# Altium schematic symbol library SX1301DVK_e286v01a.SchLib: 61 symbols
Pins are listed as number, name and electrical type; pins without a type are passive.

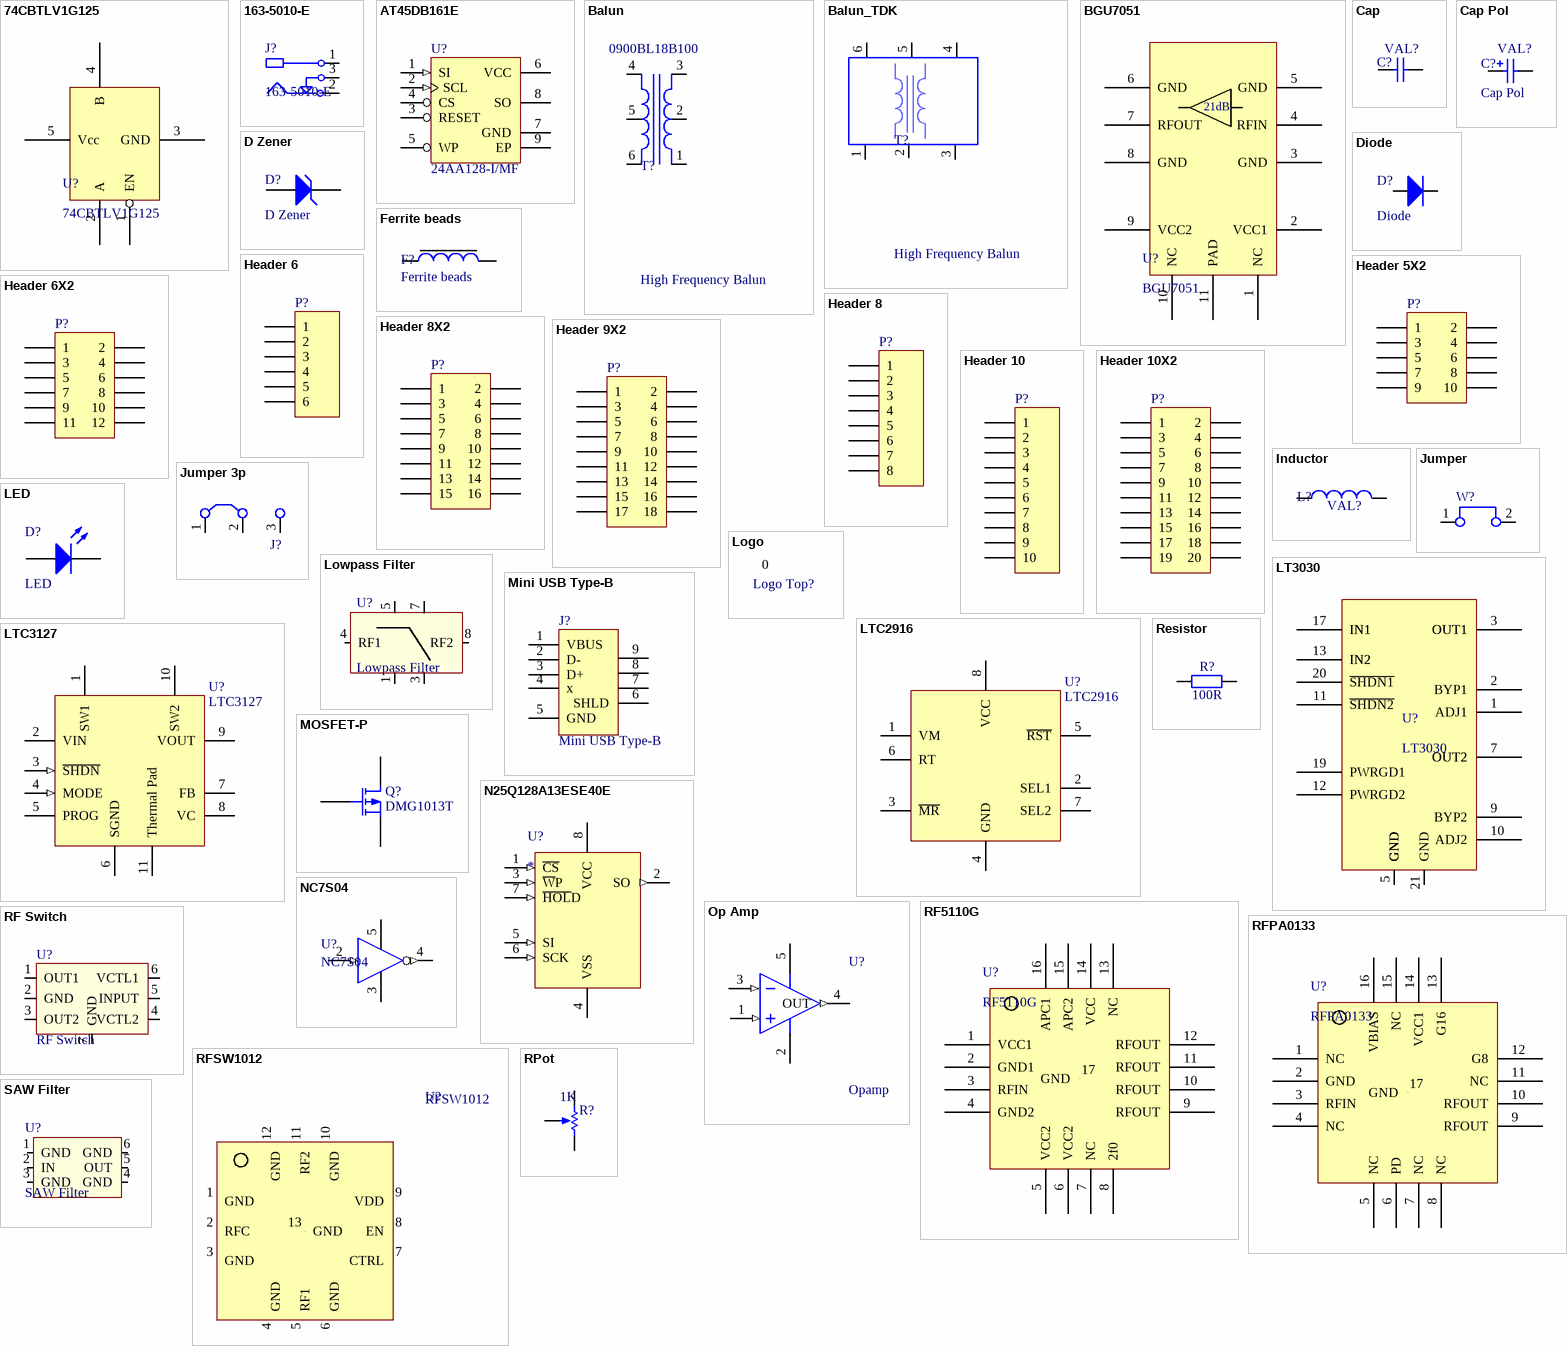
[diagram p0: symbols 74CBTLV1G125 to SAW Filter]

## 74CBTLV1G125
designator U?
74CBTLV1G125 - Low-Voltage Single Fet Bus Switch
footprint SOT353-5 (SOT353, 5-Leads, Body 2x1.3mm, Pitch 0.65mm, Lead Span 2.1mm, IPC Medium Density)
pins: 1 EN, 2 A, 3 GND, 4 B, 5 Vcc

## 163-5010-E
designator J?
163-5010-E - DC connector for external power supply; LatestRevisionDate: 05-oct-2007  -  Semtech
footprint 163-5010-E
pins: 1 "pin terminal - internal", 2 "sleeve pin - external", 3 "break pin"

## AT45DB161E
designator U?, comment 24AA128-I/MF
128kbit, 400kHz, 1.7V, 8-Pin DFN, Industrial Temperature; Published: 2-Dec-2009; DatasheetVersion: revF, Oct-2008; PackageVersion: revBB, Aug-2009; Publisher: Altium Limited; Supplier 1: Digi-Key; Supplier Part Number 1: 24AA128-I/MF; ComponentLink2Description: Packaging Specification; ComponentLink3Description: Microchip.com Home; ComponentLink3URL: http://www.microchip.com/
footprint DFN8_ 5x6mm (8 Leads, Body 5x6mm, pitch 1.27mm, DFN8)
pins: 1 SI (in), 2 SCL (in), 3 RESET, 4 CS (power), 5 WP, 6 VCC (power), 7 GND, 8 SO (power), 9 EP

## Balun
designator T?, comment High Frequency Balun  Ref: 0900BL18B100
High Frequency Balun - Johanson; Published: 31-oct-2013; LatestRevisionDate: 31-oct-2013; LatestRevisionNote: Re-released for DXP Platform.; Publisher: Altium Limited; PackageDescription: Transformer; 6 Leads
footprint 0900BL18B100 (0900BL18B100; Low Pass Filter; Johanson; Body 2.00 x 1.25 mm (LxW max))
pins: 1 Sec-, 2 SecCT, 3 Sec+, 4 Pri+, 5 PriCT, 6 Pri-

## Balun_TDK
designator T?, comment High Frequency Balun
High Frequency Balun - Johanson; Published: 31-oct-2013; LatestRevisionDate: 31-oct-2013; LatestRevisionNote: Re-released for DXP Platform.; Publisher: Altium Limited; PackageDescription: Transformer; 6 Leads
footprint hhm1591d1_Balun (hhm1591d1; balun; TDK; Body 2.00 x 1.25 mm (LxW max))
pins: 1 Sec-, 2 SecCT, 3 Sec+, 4 Pri+, 5 PriCT, 6 Pri-

## BGU7051
designator U?
BGU7051 - Low Noise High Linearity Amplifier
footprint HWSON10 3.0x3.0mm (10 Leads, Body 3.0x3.0mm, Pitch 0.5mm, HWSON10)
pins: 1 NC, 2 VCC1, 3 GND, 4 RFIN, 5 GND, 6 GND, 7 RFOUT, 8 GND, 9 VCC2, 10 NC, 11 PAD
text: 21dB

## Cap
designator C?  value VAL?  (hidden comment: Cap)
Capacitor SMD; Published: 8-Jun-2000; LatestRevisionDate: 05-oct-2007  -  Semtech; LatestRevisionNote: Re-released for DXP Platform.; Publisher: Altium Limited
simulation model CAP (Semiconductor Capacitor)
signal-integrity model Cap Semi
footprint rlc_402_smd (Chip SMD component 402; Body 1.0 x 0.5 mm (LxW typ))
footprint rlc_603_smd (Chip SMD component 603; Body 1.6 x 0.8mm (LxW typ))
footprint rlc_805_smd (Chip SMD component 805; Body 2.0 x 1.25 mm (LxW typ))
footprint rlc_1206_smd (Chip SMD component 1206; Body 3.2 x 1.6 mm (LxW typ))
footprint rlc_201_smd (Chip SMD component 201; Body 0.6 x 0.3 mm (LxW typ))
pins: 1, 2

## Cap Pol
designator C?  value VAL?
Polarized Capacitor (Surface Mount); Published: 8-Jun-2000; LatestRevisionDate: 05-oct-2007  -  Semtech; LatestRevisionNote: Re-released for DXP Platform.; Publisher: Altium Limited
simulation model CAP (Capacitor)
signal-integrity model Cap Pol
footprint rlc_1210_smd (Chip SMD component 1210; Body 3.2 x 2.5 mm (LxW typ))
footprint rlc_1812_smd (Chip SMD component 1812; Body 4.5 x 3.2 mm (LxW typ))
footprint rlc_2225_smd (Chip SMD component 2225; Body 5.6 x 6.4 mm (LxW typ))
footprint CD3216-1206 (Chip Diode; Body 3.2 x 1.6 mm (LxW typ))
footprint CD2012-0805 (Chip Diode; Body 2.0 x 1.3 mm (LxW typ))
footprint rlc_1206_smd capa pol (Chip SMD component 1206; Body 3.2 x 1.6 mm (LxW typ))
pins: 1, 2
1 alternate drawing of the same symbol

## D Zener
designator D?
Zener Diode; Published: 8-Jun-2000; LatestRevisionDate: 05-oct-2007  -  Semtech; LatestRevisionNote: Re-released for DXP Platform.; Publisher: Altium Limited
footprint CD1608-0603 (Chip Diode; Body 1.6 x 0.8 mm (LxW typ))
footprint CD2012-0805 (Chip Diode; Body 2.0 x 1.3 mm (LxW typ))
pins: 1 A, 2 K

## Diode
designator D?
Protection Diode; Published: 8-Jun-2000; LatestRevisionDate: 17-Jul-2002; LatestRevisionNote: Re-released for DXP Platform.; PackageDocument: Sep-1996; PackageReference: SMC; Publisher: Altium Limited; Code_JEDEC: 05-oct-2007  -  Semtech
footprint CD1005-0402 (Chip Diode; Body 1.0 x 0.5 mm (LxW typ))
footprint CD1608-0603 (Chip Diode; Body 1.6 x 0.8 mm (LxW typ))
footprint CD2012-0805 (Chip Diode; Body 2.0 x 1.3 mm (LxW typ))
footprint CD3216-1206 (Chip Diode; Body 3.2 x 1.6 mm (LxW typ))
footprint PowerDI 123 (Chip Diode; PowerDI 123)
footprint DO214-AA (Chip Diode; Body 4.3 x3.6mm (LxW typ))
footprint SOD123 (SOD123; Chip Diode; Body  2.7 x 1.6 mm (LxW typ))
pins: 1 A, 2 K

## Ferrite beads
designator F?
Value: VAL?
footprint rlc_1206_smd (Chip SMD component 1206; Body 3.2 x 1.6 mm (LxW typ))
footprint rlc_805_smd (Chip SMD component 805; Body 2.0 x 1.25 mm (LxW typ))
footprint rlc_603_smd (Chip SMD component 603; Body 1.6 x 0.8mm (LxW typ))
footprint rlc_402_smd (Chip SMD component 402; Body 1.0 x 0.5 mm (LxW typ))
pins: 1, 2

## Header 5X2
designator P?
Header, 5-Pin, Dual row; LatestRevisionDate: 17-Jul-2002; LatestRevisionNote: Re-released for DXP Platform.; Publisher: Altium Limited
footprint HDR2X5 (Connector; Header; 5x2 Position)
signal-integrity model Connector
pins: 1, 2, 3, 4, 5, 6, 7, 8, 9, 10

## Header 6
designator P?
Header, 6-Pin; LatestRevisionDate: 17-Jul-2002; LatestRevisionNote: Re-released for DXP Platform.; Publisher: Altium Limited
footprint HDR1X6 (Connector; Header; 6 Position)
signal-integrity model Connector
pins: 1, 2, 3, 4, 5, 6

## Header 6X2
designator P?
Header, 6-Pin, Dual row; LatestRevisionDate: 17-Jul-2002; LatestRevisionNote: Re-released for DXP Platform.; Publisher: Altium Limited
footprint HDR2X6 (Connector; Header; 6x2 Position)
signal-integrity model Connector
pins: 1, 2, 3, 4, 5, 6, 7, 8, 9, 10, 11, 12

## Header 8
designator P?
Header, 8-Pin; LatestRevisionDate: 17-Jul-2002; LatestRevisionNote: Re-released for DXP Platform.; Publisher: Altium Limited
footprint HDR1X8 (Connector; Header; 8 Position)
signal-integrity model Connector
pins: 1, 2, 3, 4, 5, 6, 7, 8

## Header 8X2
designator P?
Header, 8-Pin, Dual row; LatestRevisionDate: 17-Jul-2002; LatestRevisionNote: Re-released for DXP Platform.; Publisher: Altium Limited
footprint HDR2X8 (Connector; Header; 8x2 Position)
signal-integrity model Connector
pins: 1, 2, 3, 4, 5, 6, 7, 8, 9, 10, 11, 12, 13, 14, 15, 16

## Header 9X2
designator P?
Header, 9-Pin, Dual row; LatestRevisionDate: 17-Jul-2002; LatestRevisionNote: Re-released for DXP Platform.; Publisher: Altium Limited
footprint HDR2X9 (Connector; Header; 9x2 Position)
signal-integrity model Connector
pins: 1, 2, 3, 4, 5, 6, 7, 8, 9, 10, 11, 12, 13, 14, 15, 16, 17, 18

## Header 10
designator P?
Header, 10-Pin; LatestRevisionDate: 17-Jul-2002; LatestRevisionNote: Re-released for DXP Platform.; Publisher: Altium Limited
footprint HDR1X10 (Connector; Header; 10 Position)
signal-integrity model Connector
pins: 1, 2, 3, 4, 5, 6, 7, 8, 9, 10

## Header 10X2
designator P?
Header, 10-Pin, Dual row; LatestRevisionDate: 17-Jul-2002; LatestRevisionNote: Re-released for DXP Platform.; Publisher: Altium Limited
footprint HDR2X10 (Connector; Header; 10x2 Position)
signal-integrity model Connector
pins: 1, 2, 3, 4, 5, 6, 7, 8, 9, 10, 11, 12, 13, 14, 15, 16, 17, 18, 19, 20

## Inductor
designator L?  value VAL?  (hidden comment: Inductor)
Code_IEC: 1005; Published: 8-Jun-2000; LatestRevisionDate: 05-oct-2007  -  Semtech; LatestRevisionNote: Re-released for DXP Platform.; Publisher: Altium Limited; Code_JEITA: 0402
footprint rlc_402_smd (Chip SMD component 402; Body 1.0 x 0.5 mm (LxW typ))
footprint rlc_1812_smd (Chip SMD component 1812; Body 4.5 x 3.2 mm (LxW typ))
footprint WE-PD2 Wurth 5.2 x 5.8mm (Chip Diode; Body  5.2 x 5.8mm (LxW typ))
footprint XFL4020 Series (Chip SMD component ; Body 4.0 x 4.0 mm (LxW typ))
footprint L2813
footprint L4818
pins: 1, 2

## Jumper
designator W?  (value not drawn)
Jumper Wire; LatestRevisionDate: 05-oct-2007  -  Semtech
footprint bridge_254mm (Generic Bridge 2.54mm, 2 Leads 1mm;)
footprint bridge_508mm (Generic Bridge 5.08mm, 2 Leads 1mm;)
pins: 1, 2

## Jumper 3p
designator J?  (value not drawn)
Value: 1K; Published: 8-Jun-2000; LatestRevisionDate: 17-Jul-2002; LatestRevisionNote: Re-released for DXP Platform.; PackageReference: AXIAL-0.3; Publisher: Altium Limited
footprint bridge_254mm_3_position (Generic Bridge 2.54mm, 3 Leads; Hole Size 0.9mm;)
footprint bridge_254mm_3_position_1.1mm (Generic Bridge 2.54mm, 3 Leads; Hole Size 1.1mm;)
footprint bridge_254mm_3_position_no_overlay (Generic Bridge 2.54mm, 3 Leads; Hole Size 0.9mm;)
pins: 1, 2, 3

## LED
designator D?
LatestRevisionDate: 05-oct-2007  -  Semtech
footprint CD1005-0402 (Chip Diode; Body 1.0 x 0.5 mm (LxW typ))
footprint CD1608-0603 (Chip Diode; Body 1.6 x 0.8 mm (LxW typ))
footprint CD2012-0805 (Chip Diode; Body 2.0 x 1.3 mm (LxW typ))
footprint Reverse LED 3216 - 1206-hole round (Reverse Package Chip LED; Body 3.2 x 1.6 mm (LxW typ))
footprint Reverse LED 3216 - 1206 - hole slot (Reverse Package Chip LED; Body 3.2 x 1.6 mm (LxW typ))
footprint LGM676 LED (Chip Diode; Body 2.1 x 1.4 mm (LxW typ))
pins: 1 A, 2 K

## Logo
designator Logo Top?, comment Logo symbol  (value not drawn)
Schematic symbol for Logo
footprint logo_semtech_horiz_size1 (Logo semtech horizontal - size1 - S)
footprint logo_semtech_horiz_size2 (Logo semtech horizontal - size2 - M)
footprint logo_semtech_horiz_size3 (Logo semtech horizontal - size3 - L)
footprint logo_semtech_horiz_size4 (Logo semtech horizontal - size4 - XL)
footprint Logo DC Supply (Logo for DC Supply)
pins: 0 "Logo"

## Lowpass Filter
designator U?
RF Filter - Lowpass; LatestRevisionDate: 05-oct-2007  -  Semtech
footprint LP Filter Johanson (Low Pass Filter ; Body 2.00 x 1.25 mm (LxW max))
pins: 1 GND, 3 GND, 4 RF1, 5 GND, 7 GND, 8 RF2

## LT3030
designator U?
LT3030 Low Dropout, Low Noise,  Micropower Linear Regulator
footprint TSSOP20_EP (TSSOP20, 21-Leads, Eposed Pad; Body 6.5x4.4mm, Pitch 0.65mm, IPC High Density)
pins: 1 ADJ1, 2 BYP1, 3 OUT1, 4 OUT1, 5 GND, 6 GND, 7 OUT2, 8 OUT2, 9 BYP2, 10 ADJ2, 11 ~{SHDN2}, 12 PWRGD2, 13 IN2, 14 IN2, 15 GND, 16 GND, 17 IN1, 18 IN1, 19 PWRGD1, 20 ~{SHDN1}, 21 GND

## LTC2916
designator U?
LTC2916 - Voltage Supervisor with  27 Selectable Thresholds
footprint TSOT-23-8
pins: 1 VM, 2 SEL1, 3 ~{MR}, 4 GND, 5 ~{RST}, 6 RT, 7 SEL2, 8 VCC (oc)

## LTC3127
designator U?
LTC3127EDD#PBF - 1A Buck-Boost DC/DC  Converter with Programmable  Input Current Limit; Published: 30-May-2008; LatestRevisionDate: 4-Feb-2010; LatestRevisionNote: Thermal pad adjusted to match vendors recommendation, VIN type changed to power.; DatasheetVersion: Aug-2007; PackageVersion: Jul-2005; PackageReference: DD10; Publisher: Altium Limited; PackageDescription: 10-Pin Plastic DFN, 3 x 3 x 0.8 mm Body, 0.5 mm Pitch, No Pullback, Exposed Pad (DD10); Code_JEDEC: MO-229-WEED-2; ComponentLink1Description: Manufacturer Link; ComponentLink1URL: http://www.linear.com/; ComponentLink2Description: Datasheet; ComponentLink2URL: http://www.linear.com/pc/downloadDocument.do?navId=H0,C1,C1003,C1042,C1035,P7546,D5130; P/N:: LTC3127EDD#PBF
footprint DD10_N (SON, 10-Leads, Body 3x3 mm, Pitch 0.5mm, IPC Medium Density)
footprint DD10_L (SON, 10-Leads, Body 3x3 mm, Pitch 0.5mm, IPC High Density)
footprint DD10_M (SON, 10-Leads, Body 3x3 mm, Pitch 0.5mm, IPC Low Density)
footprint DD10_L (SON, 10-Leads, Body 3x3 mm, Pitch 0.5mm, IPC High Density)
pins: 1 SW1 (oc), 2 VIN (power), 3 ~{SHDN} (in), 4 MODE (in), 5 PROG, 6 SGND, 7 FB, 8 VC, 9 VOUT, 10 SW2 (oc), 11 Thermal Pad (power)

## Mini USB Type-B
designator J?
USB 2.0, Right Angle, SMT, Type B, Receptacle, 5 Position; ContactMaterial: Phosphor Bronze; ContactPlating: Gold (30) over Nickel; DrillSize: Corresponds to nominal value.; DatasheetDocument: 15-Nov-2002; PackageDocument: 15-Nov-2002; HousingMaterial: Thermoplastic; ComponentLink1Description: Manufacturer Link; ComponentLink1URL: http://www.tycoelectronics.com/; ComponentLink2Description: Packaging Specification; ComponentLink2URL: http://ecommas.tycoelectronics.com/commerce/DocumentDelivery/DDEController?Action=showdoc&DocId=Customer+Drawing%7F440478%7FB%7Fpdf%7FEnglish%7FC_440478_B.pdf
footprint H2959CT-ND (Connector; USB2.0, Type A, SM; 5 Position; Right Angle)
pins: 1 VBUS (power), 2 D-, 3 D+, 4 x, 5 GND (power), 6 SHLD, 7 SHLD, 8 SHLD, 9 SHLD
2 alternate drawings of the same symbol

## MOSFET-P
designator Q?, comment DMG1013T
P-Channel MOSFET; Published: 8-Jun-2000; LatestRevisionDate: 17-Jul-2002; LatestRevisionNote: Re-released for DXP Platform.; PackageVersion: 1995/1996; PackageReference: E3; Publisher: Altium Limited; PackageDescription: TO, Flat Index; 3 In-Line, Axial Leads; Body Dia. 4.6mm; Lead Dia. 0.5 mm (max)
footprint E3 (TO, Flat Index; 3 In-Line, Axial Leads; Body Dia. 4.6mm; Lead Dia. 0.5 mm (max))
simulation model PMOS (MOSFET-P)
pins: 1 D, 2 G, 3 S

## N25Q128A13ESE40E
designator U?
N25Q128A13ESE40E
footprint SOP2-8 (SOP2-8, SE Package 8-Leads, Body 5.3x5.3mm, Pitch 1.27mm, IPC High Density)
pins: 1 ~{CS} (in), 2 SO (out), 3 ~{W}P (in), 4 VSS (power), 5 SI (in), 6 SCK (in), 7 ~{HOL}D (in), 8 VCC (power)

## NC7S04
designator U?
NC7S04 - TinyLogic HS Single Inverter - Fairchild Semi
footprint SOT23-5 (SOT23, 5-Leads, Body 2.9x1.6mm, Pitch 0.95mm, Lead Span 2.8mm, IPC Medium Density)
pins: 2 A (in), 3 GND (power), 4 Y (out), 5 VCC (power)

## Op Amp
designator U?, comment Opamp
Operational Amplifier - MAX4464
footprint SOT23-5 (SOT23, 5-Leads, Body 2.9x1.6mm, Pitch 0.95mm, Lead Span 2.8mm, IPC Medium Density)
pins: 1 IN+ (in), 2 VSS (power), 3 IN- (in), 4 OUT (out), 5 VDD (power)

## Resistor
designator R?  value 100R  (hidden comment: Resistor)
Resistor SMD - IEC symbol version; LatestRevisionDate: 27-Jul-20  -  Semtech
footprint rlc_201_smd (Chip SMD component 201; Body 0.6 x 0.3 mm (LxW typ))
footprint rlc_402_smd (Chip SMD component 402; Body 1.0 x 0.5 mm (LxW typ))
footprint rlc_603_smd (Chip SMD component 603; Body 1.6 x 0.8mm (LxW typ))
footprint rlc_805_smd (Chip SMD component 805; Body 2.0 x 1.25 mm (LxW typ))
footprint rlc_1206_smd (Chip SMD component 1206; Body 3.2 x 1.6 mm (LxW typ))
pins: 1, 2

## RF5110G
designator U?
RF5110G - General Power Amplifier
footprint mlpq16_3x3mm (16 Leads, Body 3.0x3.0mm, Pitch 0.50mm, MLPQ16)
pins: 1 VCC1, 2 GND1, 3 RFIN, 4 GND2, 5 VCC2, 6 VCC2, 7 NC, 8 2f0, 9 RFOUT, 10 RFOUT, 11 RFOUT, 12 RFOUT, 13 NC, 14 VCC, 15 APC2, 16 APC1, 17 GND

## RF Switch
designator U?
RF Switch; MLPD-6; 0.5mm pitch; LatestRevisionDate: 31-Oct-2013 -  Semtech
footprint MLPD-6 (MLPD-6; 2.0x1.5mm; 0.5mm pitch)
pins: 1 OUT1, 2 GND, 3 OUT2, 4 VCTL2, 5 INPUT, 6 VCTL1, 7 GND

## RFPA0133
designator U?
RFPA0133 -  3 to 5V Programmable Gain High Efficiency Power Amplifier
footprint mlpq16_3x3mm (16 Leads, Body 3.0x3.0mm, Pitch 0.50mm, MLPQ16)
pins: 1 NC, 2 GND, 3 RFIN, 4 NC, 5 NC, 6 PD, 7 NC, 8 NC, 9 RFOUT, 10 RFOUT, 11 NC, 12 G8, 13 G16, 14 VCC1, 15 NC, 16 VBIAS, 17 GND

## RFSW1012
designator U?
RFSW1012 - Broadband SPDT Switch; LatestRevisionDate: 04-jan-2008  -  Semtech
footprint vqfn12_2x2mm (12 Leads, Body 2.0x2.0mm, Pitch 0.50mm, VQFN12)
pins: 1 GND, 2 RFC, 3 GND, 4 GND, 5 RF1, 6 GND, 7 CTRL, 8 EN, 9 VDD, 10 GND, 11 RF2, 12 GND, 13 GND

## RPot
designator R?  value 1K
Potentiometer; Sim Note: Enter the Resistance value and the set point into parameter fields.; Set Position: 0.5; Published: 8-Jun-2000; LatestRevisionDate: 17-Jul-2002; LatestRevisionNote: Re-released for DXP Platform.; PackageReference: VR5; Publisher: Altium Limited; PackageDescription: Variable Resistor, Thru-Hole; 3 Leads
footprint 3296Y (Potentimeter Bourns 3296Y - 5.08/2.54mm)
pins: 1 TOP, 2 BOT, 3 TAP
1 alternate drawing of the same symbol

## SAW Filter
designator U?
SAW Filter - Bandpass - TEMEX type; LatestRevisionDate: 05-oct-2007  -  Semtech
footprint sc44_3.8x3.8mm (sc44 footprint, 3.8x3.8mm)
footprint DCC6C_3.0x3.0mm (DCC6C footprint, 3.0x3.0mm)
pins: 1 GND, 2 IN, 3 GND, 4 GND, 5 OUT, 6 GND

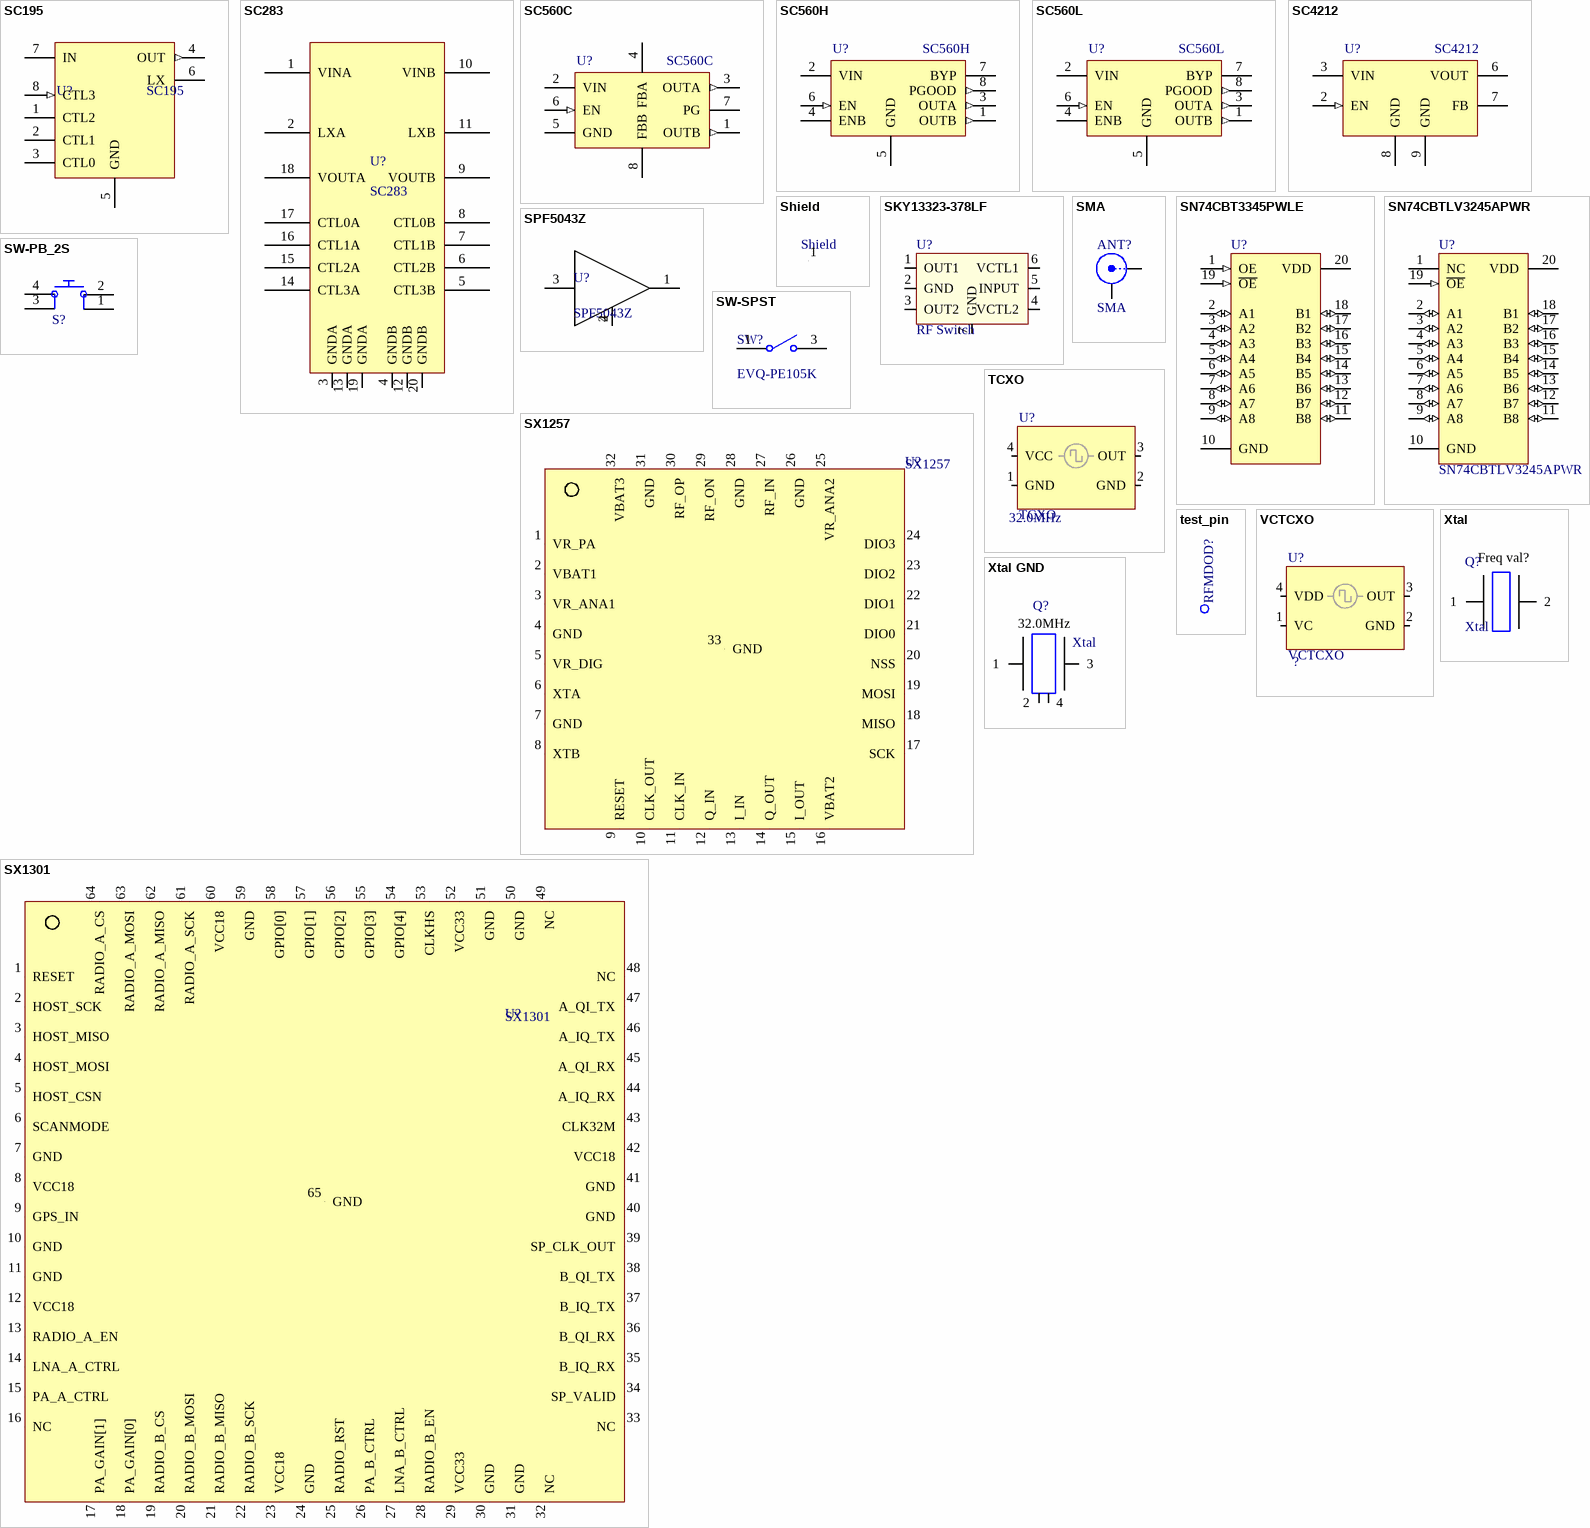
[diagram p1: symbols SC195 to Xtal GND]

## SC195
designator U?
SC195 - 3.5MHz, 500mA Synchronous  Step Down DC-DC Regulator; Value: ?
footprint MLPQ-UT8
pins: 1 CTL2, 2 CTL1, 3 CTL0, 4 OUT (out), 5 GND (power), 6 LX, 7 IN, 8 CTL3 (in)

## SC283
designator U?
SC283 - Dual Channel 2.5MHz, 1.8A  Synchronous Step-Down Regulator
footprint MLPQ-W18 (MLPQ-W18 ; 2mm x 3mm)
pins: 1 VINA, 2 LXA, 3 GNDA, 4 GNDB, 5 CTL3B, 6 CTL2B, 7 CTL1B, 8 CTL0B, 9 VOUTB, 10 VINB, 11 LXB, 12 GNDB, 13 GNDA, 14 CTL3A, 15 CTL2A, 16 CTL1A, 17 CTL0A, 18 VOUTA, 19 GNDA, 20 GNDB

## SC560C
designator U?
SC560C - Dual Output Low Noise LDO  Linear Regulator
footprint MLPQ-UT8
pins: 1 OUTB (out), 2 VIN, 3 OUTA (out), 4 FBA, 5 GND (power), 6 EN (in), 7 PG, 8 FBB

## SC560H
designator U?
SC560H - Dual Output Low Noise LDO  Linear Regulator
footprint MLPQ-UT8
pins: 1 OUTB (out), 2 VIN, 3 OUTA (out), 4 ENB, 5 GND (power), 6 EN (in), 7 BYP, 8 PGOOD (out)

## SC560L
designator U?
SC560L - Dual Output Low Noise LDO  Linear Regulator; Value: ?
footprint MLPQ-UT8
pins: 1 OUTB (out), 2 VIN, 3 OUTA (out), 4 ENB, 5 GND (power), 6 EN (in), 7 BYP, 8 PGOOD (out)

## SC4212
designator U?
SC4212 - Very Low Input /Very Low Dropout  1Amp Regulator With Enable; Value: ?
footprint MLPD-8 3x3mm (MLPD-8; 3.0x3.0mm; 0.65mm pitch)
pins: 2 EN (in), 3 VIN, 6 VOUT, 7 FB, 8 GND (power), 9 GND (power)

## Shield
designator Shield, comment Logo symbol  (value not drawn)
Shield - EMI Gasket - Standard Surface Mount Shields
footprint SHIELD-1P125X0P75
footprint SHIELD-1P125X0P75 - 800
footprint SHIELD-1P125X0P75 - 900
footprint BMIS-210-F - Shield (BMIS-210-F EMI Gasket - Standard Surface Mount Shields -  Laird Technologies)
pins: 1 "Shield"

## SKY13323-378LF
designator U?, comment RF Switch
SKY13323-378LF - Skyworks; LatestRevisionDate: 31-Oct-2013 -  Semtech
footprint MLPD-6
pins: 1 OUT1, 2 GND, 3 OUT2, 4 VCTL2, 5 INPUT, 6 VCTL1, 7 GND

## SMA
designator ANT?
SMA Straight Connector; LatestRevisionDate: 05-oct-2007  -  Semtech; LatestRevisionNote: Re-released for DXP Platform.; Publisher: Altium Limited
footprint SMA Straight SMD (SMA Connector; Straight; SMD)
footprint SMA END LAUNCH JACK RECEPTACLE (SMA Connector - End Launch Jack Receptacle)
footprint SMA Straight (SMA Connector; Straight)
footprint U.FL-R-SMT HIROSE (Hirose U.FL RF receptacle - U.FL-R-SMT)
footprint 142-071-821 SMA End Launch (142-071-821 - Emserson SMA End Launch Jack Receptacle)
footprint SMA_EDGE (SMA Edge connector - modified)
pins: 1 Signal "RF signal", 2 GND "Ground signal"

## SN74CBT3345PWLE
designator U?
8-Bit FET Bus Switch; ComponentAvailability: Obsolete; Published: 8-Jun-2000; LatestRevisionDate: 16-Oct-2006; LatestRevisionNote: IPC-7351 Footprint Added.; DatasheetVersion: May-1998; PackageVersion: Feb-1999; PackageReference: PW020; Publisher: Altium Limited; PackageDescription: 20-Pin Thin Small Outline Package 0.65 mm Pitch; ComponentLink1Description: Manufacturer Link; ComponentLink1URL: http://www.ti.com/; ComponentLink2Description: Datasheet; ComponentLink2URL: http://www-s.ti.com/sc/ds/sn74cbt3345.pdf
footprint PW020_N (TSOP, 20-Leads, Body 6.5x4.4mm, Pitch 0.65mm, IPC Medium Density)
footprint PW020_L (TSOP, 20-Leads, Body 6.5x4.4mm, Pitch 0.65mm, IPC High Density)
footprint PW020_M (TSOP, 20-Leads, Body 6.5x4.4mm, Pitch 0.65mm, IPC Low Density)
3D model PW020 (20-Pin Thin Small Outline Package 0.65 mm Pitch)
pins: 1 OE (in), 2 A1 (io), 3 A2 (io), 4 A3 (io), 5 A4 (io), 6 A5 (io), 7 A6 (io), 8 A7 (io), 9 A8 (io), 10 GND (power), 11 B8 (io), 12 B7 (io), 13 B6 (io), 14 B5 (io), 15 B4 (io), 16 B3 (io), 17 B2 (io), 18 B1 (io), 19 ~{OE} (in), 20 VDD (power)

## SN74CBTLV3245APWR
designator U?
8-Bit FET Bus Switch; ComponentAvailability: Obsolete; Published: 8-Jun-2000; LatestRevisionDate: 16-Oct-2006; LatestRevisionNote: IPC-7351 Footprint Added.; DatasheetVersion: May-1998; PackageVersion: Feb-1999; PackageReference: PW020; Publisher: Altium Limited; PackageDescription: 20-Pin Thin Small Outline Package 0.65 mm Pitch; ComponentLink1Description: Manufacturer Link; ComponentLink1URL: http://www.ti.com/; ComponentLink2Description: Datasheet; ComponentLink2URL: http://www-s.ti.com/sc/ds/sn74cbt3345.pdf
footprint PW020_L (TSOP, 20-Leads, Body 6.5x4.4mm, Pitch 0.65mm, IPC High Density)
3D model PW020 (20-Pin Thin Small Outline Package 0.65 mm Pitch)
pins: 1 NC, 2 A1 (io), 3 A2 (io), 4 A3 (io), 5 A4 (io), 6 A5 (io), 7 A6 (io), 8 A7 (io), 9 A8 (io), 10 GND (power), 11 B8 (io), 12 B7 (io), 13 B6 (io), 14 B5 (io), 15 B4 (io), 16 B3 (io), 17 B2 (io), 18 B1 (io), 19 ~{OE} (in), 20 VDD (power)

## SPF5043Z
designator U?
SPF5043Z; Low Noise Amplifier; RFMD
footprint SOT-343 (SOT343, 4-Leads, Body 2x1.3 mm, Pitch 1.3mm, Lead Span 2.1mm)
pins: 1 OUT, 2 GND1, 3 IN, 4 GND2

## SW-PB_2S
designator S?, comment SW_PB_2S  (value not drawn)
Subminiature Toggle Switch, Right Angle Mounting, Vertical Actuation; Published: 24-Mar-1999; LatestRevisionDate: 05-oct-2007  -  Semtech; LatestRevisionNote: Schematic revised, PCB Footprint replaced.; DatasheetDocument: 05-Dec-2000; Publisher: Altium Limited; ComponentLink1Description: Manufacturer Link; ComponentLink1URL: http://www.apem.com
footprint Switch_FSM2JSMA_Tyco (8-Pin Small Outline Integrated Circuit 1.27 mm Pitch, IPC Medium Density)
footprint Switch_7914_Bourns (Switch Bourns 7914 SMD)
pins: 1, 2, 3, 4

## SW-SPST
designator SW?, comment EVQ-PE105K
Single-Pole, Single-Throw Switch; Published: 24-Mar-1999; LatestRevisionDate: 17-Jul-2002; LatestRevisionNote: Re-released for DXP Platform.; PackageReference: SPST-2; Publisher: Altium Limited; PackageDescription: Switch; 2 Leads
footprint SPST-2 (Switch; 2 Leads)
pins: 1 COMMON, 3 NO

## SX1257
designator U?
SX1257 RF Front-End Transceiver - I/Q New Pinout; LatestRevisionDate: 06-Dec-2013  -  Semtech
footprint vqfn32_5x5mm (32 Leads, Body 5.0x5.0mm, Pitch 0.50mm, VQFN32)
pins: 1 VR_PA, 2 VBAT1, 3 VR_ANA1, 4 GND, 5 VR_DIG, 6 XTA, 7 GND, 8 XTB, 9 RESET, 10 CLK_OUT, 11 CLK_IN, 12 Q_IN, 13 I_IN, 14 Q_OUT, 15 I_OUT, 16 VBAT2, 17 SCK, 18 MISO, 19 MOSI, 20 NSS, 21 DIO0, 22 DIO1, 23 DIO2, 24 DIO3, 25 VR_ANA2, 26 GND, 27 RF_IN, 28 GND, 29 RF_ON, 30 RF_OP, 31 GND, 32 VBAT3, 33 GND

## SX1301
designator U?
SX1301 - Base Band Processor for Data Concentrator for Long Range Communication Network; Apps Pinout; LatestRevisionDate: 06-Dec-2013
footprint vqfn64_9x9mm (VQFN64 Leads, Body 9.0x9.0mm, Pitch 0.50mm, VQFN64)
pins: 1 RESET, 2 HOST_SCK, 3 HOST_MISO, 4 HOST_MOSI, 5 HOST_CSN, 6 SCANMODE, 7 GND, 8 VCC18, 9 GPS_IN, 10 GND, 11 GND, 12 VCC18, 13 RADIO_A_EN, 14 LNA_A_CTRL, 15 PA_A_CTRL, 16 NC, 17 PA_GAIN[1], 18 PA_GAIN[0], 19 RADIO_B_CS, 20 RADIO_B_MOSI, 21 RADIO_B_MISO, 22 RADIO_B_SCK, 23 VCC18, 24 GND, 25 RADIO_RST, 26 PA_B_CTRL, 27 LNA_B_CTRL, 28 RADIO_B_EN, 29 VCC33, 30 GND, 31 GND, 32 NC, 33 NC, 34 SP_VALID, 35 B_IQ_RX, 36 B_QI_RX, 37 B_IQ_TX, 38 B_QI_TX, 39 SP_CLK_OUT, 40 GND, 41 GND, 42 VCC18, 43 CLK32M, 44 A_IQ_RX, 45 A_QI_RX, 46 A_IQ_TX, 47 A_QI_TX, 48 NC, 49 NC, 50 GND, 51 GND, 52 VCC33, 53 CLKHS, 54 GPIO[4], 55 GPIO[3], 56 GPIO[2], 57 GPIO[1], 58 GPIO[0], 59 GND, 60 VCC18, 61 RADIO_A_SCK, 62 RADIO_A_MISO, 63 RADIO_A_MOSI, 64 RADIO_A_CS, 65 GND

## TCXO
designator U?  value 32.0MHz
footprint IT3200C TCXO (SMD 3.2x2.5mm for IT3200C TCXO)
footprint TCXO 3.2x2.5mm (SMD 3.2x2.5mm for TCXO or VCTCXO)
footprint TCXO 3.2x2.5mm_2.0x1.6mm (SMD 3.2x2.5mm & 2.0x1.6mm compatible for TCXO or VCTCXO)
footprint TCXO 2.0x1.6mm (SMD 2.0x1.6mm for TCXO or VCTCXO)
pins: 1 GND, 2 GND, 3 OUT, 4 VCC

## test_pin
designator RFMDOD?, comment Test Pin  (value not drawn)
LatestRevisionDate: 05-oct-2007  -  Semtech
footprint pin_1mm (Generic Pin 1.1mm; 1 Lead)
footprint pin_1.1mm (Generic Pin 1.1mm; 1 Lead)
footprint pin_0.9mm (Generic Pin 0.9mm; 1 Lead)
pins: 1 pin "Test Pin"

## VCTCXO
designator U?
Value: ?
footprint TCXO 3.2x2.5mm (SMD 3.2x2.5mm for TCXO or VCTCXO)
footprint TCXO 7.0x5.0mm (VTCXO SMD 7.0x5.0mm)
pins: 1 VC, 2 GND, 3 OUT, 4 VDD

## Xtal
designator Q?  value Freq val?
Crystal oscillator; LatestRevisionDate: 05-oct-2007  -  Semtech
footprint 3SMXA (Quartz Crystal, SM; Body 6.2 x 3.7 mm (LxW max))
footprint 12SMXA (Quartz Crystal, SM; Body 7.5 x 5.1 mm (LxW max))
footprint BCY-W2/D1.5 (Crystal, Thru-Hole; 2 Leads; Body 1.5 x 5.1 mm (Dia.xH))
footprint BCY-W2/D2.1 (Crystal, Thru-Hole; 2 Leads; Body 2.1 x 6.2 mm (Dia.xH))
footprint DSO-C4/Y2 (Quartz Crystal, SM; 4 Leads; Body 13 x 4.7 x 4.2 mm (LxWxH))
footprint HC49/4H_SMX (Quartz Crystal, SM; Body 13.4 (inc. leads) x 4.9 mm (LxW max))
footprint DSO-C4/D13 (Quartz Crystal, SM; 4 Leads; Body 13 x 5 x 5 mm (LxWxH))
footprint Crystal_3.2x1.5 (Quartz Crystal, SM; Body 3.2x1.5 mm (LxW max))
footprint FC-135 3.2x1.5mm (Crystal unit; 2 leads; 3.2x1.5mm)
pins: 1, 2

## Xtal GND
designator Q?, comment Xtal  value 32.0MHz
Crystal with GND pins; LatestRevisionDate: 05-oct-2007  -  Semtech
footprint nd2520da (Crystal SMD 2.5x2.0mm)
footprint nd2016da (Crystal SMD 2.0x1.6mm)
footprint nd3225da (Crystal SMD 3.2x2.5mm)
footprint nd5032da (Crystal SMD 5.0x3.2mm)
footprint nd6035da (Crystal SMD 6.0x3.5mm)
footprint nd7050da - enlarge (Crystal SMD 7.0x5.0mm - Enlarge Pads to be compatible with 3.2x2.5mm footprint)
footprint nd3225da - nd2520da (Crystal SMD 3.2x2.5mm compatible with 2.5x2.0mm)
pins: 1, 2, 3, 4